# Altium footprint library Connector.PcbLib: 1 footprints
Each footprint in its own frame and in the unit in brackets; x right, y up, seen from the top. Pads: shape width x height; smd on the part's side, far side on the other; paste and mask are expansions set on the pad; w line width, h text height; cw(c..) or ccw(c..) is an arc to the next point about the centre after c.
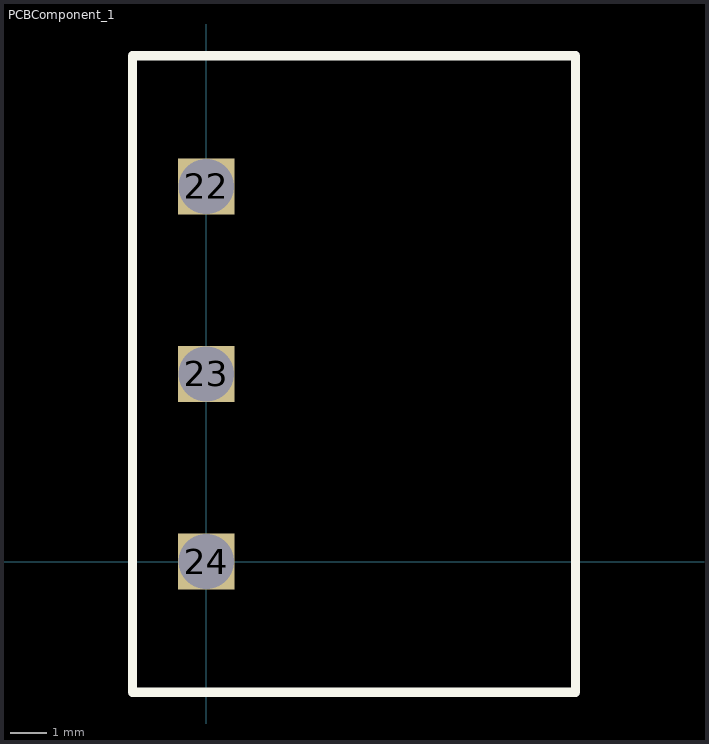
[diagram p0: the footprint, top view; thin cyan lines are the x and y axes]

## PCBComponent_1 [mil]
pads (3):
  rect 60x60 hole 59.06: 22(0,400) 23(0,200) 24(0,0)
Top Overlay:
  lines w10: -78.74,-139.37 393.7,-139.37 393.7,539.37 -78.74,539.37 -78.74,-139.37